# Altium schematic symbol library light.SCHLIB: 14 symbols
Pins are listed as number, name and electrical type; pins without a type are passive.

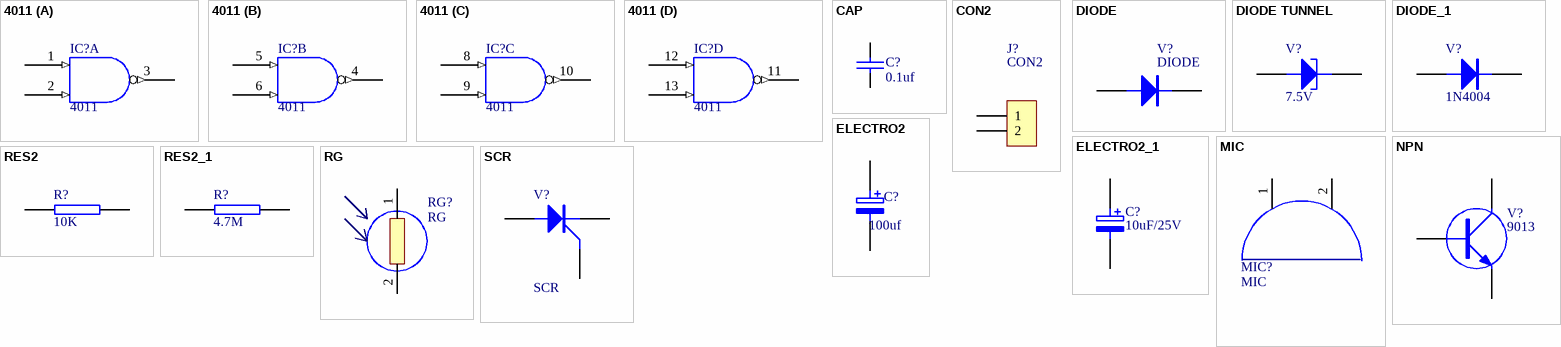
[diagram p0: symbols 4011 to SCR]

## 4011
designator IC?
footprint DIP14
part A pins: 1 (in), 2 (in), 3 (out), 7 GND (power) hidden to GND, 14 VCC (power) hidden to VCC
part B pins: 4 (out), 5 (in), 6 (in), 7 GND (power) hidden to GND, 14 VCC (power) hidden to VCC
part C pins: 7 GND (power) hidden to GND, 8 (in), 9 (in), 10 (out), 14 VCC (power) hidden to VCC
part D pins: 7 GND (power) hidden to GND, 11 (out), 12 (in), 13 (in), 14 VCC (power) hidden to VCC

## CAP
designator C?, comment 0.1uf
Capacitor
footprint RAD4
pins: 1, 2

## CON2
designator J?
Connector
footprint RAD0.1
pins: 1, 2

## DIODE
designator V?
footprint DIODE6
pins: 1 A, 2 K

## DIODE TUNNEL
designator V?, comment 7.5V
Diode Tunnel
footprint DIODE6
pins: 1 A, 2 K

## DIODE_1
designator V?, comment 1N4004
Diode
footprint DIODE8
pins: 1 A, 2 K

## ELECTRO2
designator C?, comment 100uf
Electrolytic Capacitor
footprint RB5/8
pins: 1, 2

## ELECTRO2_1
designator C?, comment 10uF/25V
Electrolytic Capacitor
footprint RB4/5
pins: 1, 2

## MIC
designator MIC?
footprint RB5/9
pins: 1, 2

## NPN
designator V?, comment 9013
NPN Transistor
footprint T3-4
pins: 1 B, 2 C, 3 E

## RES2
designator R?, comment 10K
footprint AXIAL0.4
pins: 1, 2

## RES2_1
designator R?, comment 4.7M
footprint AXIAL\0.4
pins: 1, 2

## RG
designator RG?
footprint RB5/8-D
pins: 1, 2

## SCR
designator V?
footprint T3-4
pins: 1 A, 2 K, 3 G